# Altium schematic symbol library EDR3D1C05.Schlib: 1 symbol
Pins are listed as number, name and electrical type; pins without a type are passive.

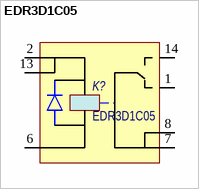
[diagram p0: symbol EDR3D1C05]

## EDR3D1C05
designator K?
Reed Relay; Назначение: Герконовое реле; Потребление, Вт: 0,125; Наименование: EDR3D1C05
footprint SOP-14 (SOP, 14-Leads, Body 19,90x6,90mm, Pitch 2,54mm, IPC Medium Density)
pins: 1, 2, 6, 7, 8, 13, 14